# Altium schematic symbol library IC_Lattice_LCMXO2-4000HC-4MG132I_eec.SchLib: 1 symbol
Pins are listed as number, name and electrical type; pins without a type are passive.

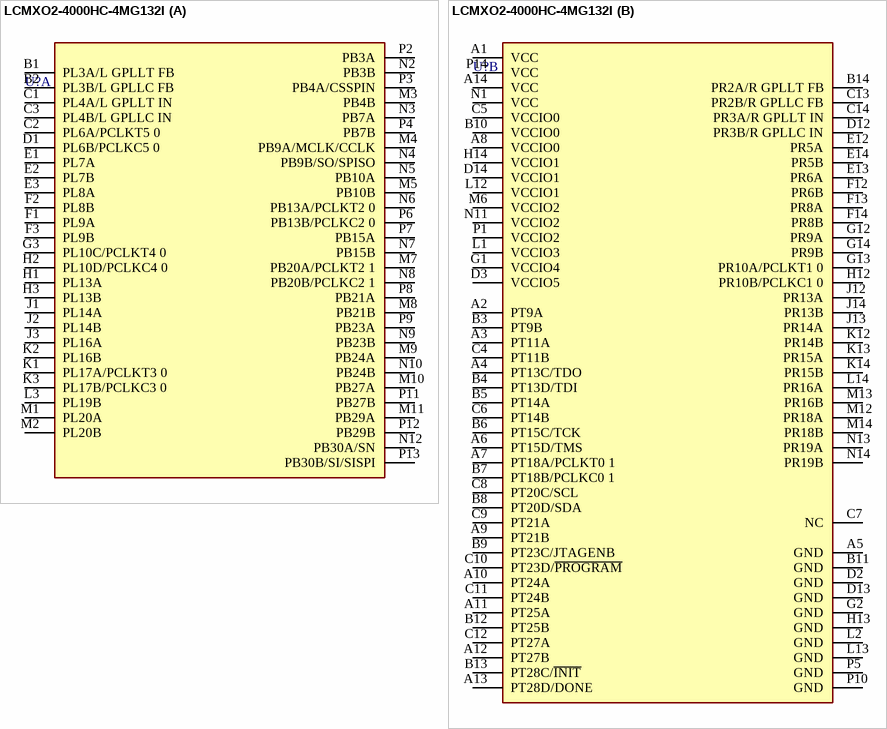
[diagram p0: symbol LCMXO2-4000HC-4MG132I]

## LCMXO2-4000HC-4MG132I
designator U?  (value not drawn)
part A pins: B1 PL3A/L GPLLT FB, B2 PL3B/L GPLLC FB, C1 PL4A/L GPLLT IN, C2 PL6A/PCLKT5 0, C3 PL4B/L GPLLC IN, D1 PL6B/PCLKC5 0, E1 PL7A, E2 PL7B, E3 PL8A, F1 PL9A, F2 PL8B, F3 PL9B, G3 PL10C/PCLKT4 0, H1 PL13A, H2 PL10D/PCLKC4 0, H3 PL13B, J1 PL14A, J2 PL14B, J3 PL16A, K1 PL17A/PCLKT3 0, K2 PL16B, K3 PL17B/PCLKC3 0, L3 PL19B, M1 PL20A, M2 PL20B, M3 PB4B, M4 PB9A/MCLK/CCLK, M5 PB10B, M7 PB20A/PCLKT2 1, M8 PB21B, M9 PB24A, M10 PB27A, M11 PB29A, N2 PB3B, N3 PB7A, N4 PB9B/SO/SPISO, N5 PB10A, N6 PB13A/PCLKT2 0, N7 PB15B, N8 PB20B/PCLKC2 1, N9 PB23B, N10 PB24B, N12 PB30A/SN, P2 PB3A, P3 PB4A/CSSPIN, P4 PB7B, P6 PB13B/PCLKC2 0, P7 PB15A, P8 PB21A, P9 PB23A, P11 PB27B, P12 PB29B, P13 PB30B/SI/SISPI
part B pins: A1 VCC, A2 PT9A, A3 PT11A, A4 PT13C/TDO, A5 GND, A6 PT15D/TMS, A7 PT18A/PCLKT0 1, A8 VCCIO0, A9 PT21B, A10 PT24A, A11 PT25A, A12 PT27B, A13 PT28D/DONE, A14 VCC, B3 PT9B, B4 PT13D/TDI, B5 PT14A, B6 PT15C/TCK, B7 PT18B/PCLKC0 1, B8 PT20D/SDA, B9 PT23C/JTAGENB, B10 VCCIO0, B11 GND, B12 PT25B, B13 PT28C/~{INIT}, B14 PR2A/R GPLLT FB, C4 PT11B, C5 VCCIO0, C6 PT14B, C7 NC, C8 PT20C/SCL, C9 PT21A, C10 PT23D/~{PROGRAM}, C11 PT24B, C12 PT27A, C13 PR2B/R GPLLC FB, C14 PR3A/R GPLLT IN, D2 GND, D3 VCCIO5, D12 PR3B/R GPLLC IN, D13 GND, D14 VCCIO1, E12 PR5A, E13 PR6A, E14 PR5B, F12 PR6B, F13 PR8A, F14 PR8B, G1 VCCIO4, G2 GND, G12 PR9A, G13 PR10A/PCLKT1 0, G14 PR9B, H12 PR10B/PCLKC1 0, H13 GND, H14 VCCIO1, J12 PR13A, J13 PR14A, J14 PR13B, K12 PR14B, K13 PR15A, K14 PR15B, L1 VCCIO3, L2 GND, L12 VCCIO1, L13 GND, L14 PR16A, M6 VCCIO2, M12 PR18A, M13 PR16B, M14 PR18B, N1 VCC, N11 VCCIO2, N13 PR19A, N14 PR19B, P1 VCCIO2, P5 GND, P10 GND, P14 VCC